# Altium schematic symbol library KNOOBS.SchLib: 1 symbol
Pins are listed as number, name and electrical type; pins without a type are passive.

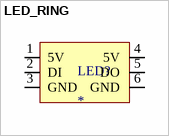
[diagram p0: symbol LED_RING]

## LED_RING
designator LED?
footprint LED_RING
pins: 1 5V, 2 DI, 3 GND, 4 5V, 5 DO, 6 GND